# Altium footprint library Hirose_ZX62R_B_5P_0.PcbLib: 1 footprints
Each footprint in its own frame and in the unit in brackets; x right, y up, seen from the top. Pads: shape width x height; smd on the part's side, far side on the other; paste and mask are expansions set on the pad; w line width, h text height; cw(c..) or ccw(c..) is an arc to the next point about the centre after c.
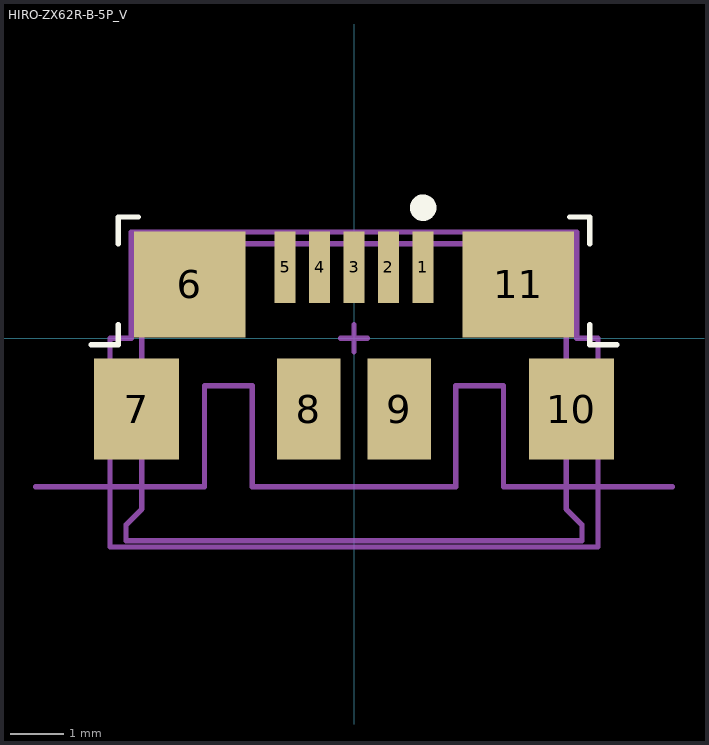
[diagram p0: the footprint, top view; thin cyan lines are the x and y axes]

## HIRO-ZX62R-B-5P_V [mm] "USB Micro-B R/A Connector"
height 2.65
pads (11):
  rect 0.4x1.35 smd: 1(1.3,1.338) 2(0.65,1.338) 3(0,1.338) 4(-0.65,1.338) 5(-1.3,1.338)
  rect 2.1x2 smd: 6(-3.1,1.012) 11(3.1,1.012)
  rect 1.6x1.9 smd: 7(-4.1,-1.338) 10(4.1,-1.338)
  rect 1.2x1.9 smd: 8(-0.85,-1.338) 9(0.85,-1.338)
Top Overlay:
  circle w0.25: c1.304,2.46 r0.125
  lines w0.1: -4.953,-0.127 -4.445,-0.127 -4.445,0.254 ; -4.445,1.778 -4.445,2.286 -4.064,2.286 ; 4.064,2.286 4.445,2.286 4.445,1.778 ; 4.445,0.254 4.445,-0.127 4.953,-0.127
Mechanical 1:
  lines w0.1: -6,-2.8 -2.82,-2.8 -2.82,-0.9 -1.92,-0.9 -1.92,-2.8 0,-2.8 1.92,-2.8 1.92,-0.9 2.82,-0.9 2.82,-2.8 6,-2.8
  text "Board edge" at 5.588,-2.667 h0.2
Mechanical 13:
  lines w0.1: -4,1.78 4,1.78 ; -4,1.78 4,1.78 ; -4,1.78 -4,-0.72 -4.572,-0.72 -4.572,-1.778 -4,-1.778 -4,-3.22 -4.3,-3.52 -4.3,-3.82 4.3,-3.82 4.3,-3.52 4,-3.22 4,-1.778 4.572,-1.778 4.572,-0.72 4,-0.72 4,1.78
Mechanical 15:
  lines w0.1: -0.254,0 0.254,0 ; 0,-0.254 0,0.254 ; -4.6,-3.937 4.6,-3.937 4.6,-2.8 4.6,0 4.2,0 4.2,2 -4.2,2 -4.2,0 -4.6,0 -4.6,-2.8 -4.6,-3.937
3D body: height 2.71, standoff -0.23, extent -4.4,-3.953 4.4,1.778